# Altium integrated library Altera Bus Interface Controller.IntLib: 2 symbols
Pins are listed as number, name and electrical type; pins without a type are passive.

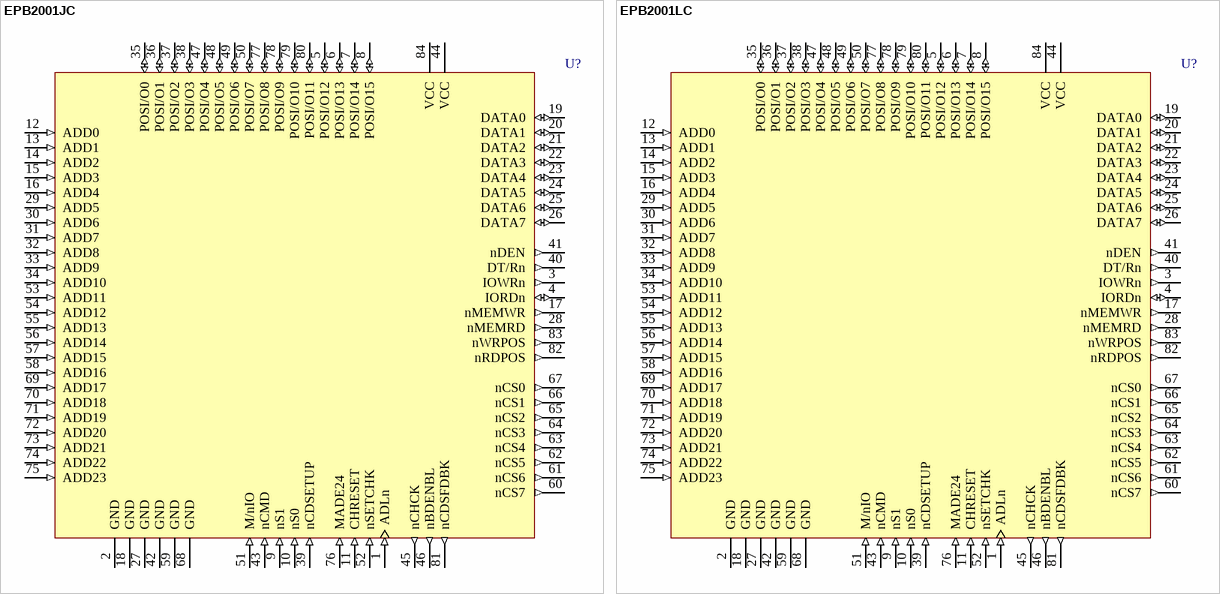
[diagram p0: symbols EPB2001JC to EPB2001LC]

## EPB2001JC
designator U?
User-Configurable Adapter Interface Chip for PS/2 Micro Channel; ComponentAvailability: Obsolete; Published: 24-Nov-2000; LatestRevisionDate: 13-Apr-2006; LatestRevisionNote: IPC-7351 Footprint Added.; DatasheetVersion: Sep-1988; PackageVersion: ver8.02, Jun-2000; PackageReference: JLCC84; Publisher: Altium Limited; PackageDescription: 84-Pin Ceramic J-Lead Chip Carrier (JLCC84); Code_JEDEC: MO-087; ComponentLink1Description: Manufacturer Link; ComponentLink1URL: http://www.altera.com/
footprint JLCC84_N (Leaded Chip Carrier, 84-Leads, Body 29.2x29.2mm, Pitch 1.27mm, IPC Medium Density)
footprint JLCC84_L (Leaded Chip Carrier, 84-Leads, Body 29.2x29.2mm, Pitch 1.27mm, IPC High Density)
footprint JLCC84_M (Leaded Chip Carrier, 84-Leads, Body 29.2x29.2mm, Pitch 1.27mm, IPC Low Density)
3D model EPB2001-JLCC84 (84-Pin Ceramic J-Lead Chip Carrier (JLCC84))
pins: 1 ADLn (in), 2 GND (power), 3 IOWRn (out), 4 IORDn (io), 5 POSI/O12 (io), 6 POSI/O13 (io), 7 POSI/O14 (io), 8 POSI/O15 (io), 9 nS1 (in), 10 nS0 (in), 11 CHRESET (in), 12 ADD0 (in), 13 ADD1 (in), 14 ADD2 (in), 15 ADD3 (in), 16 ADD4 (in), 17 nMEMWR (out), 18 GND (power), 19 DATA0 (io), 20 DATA1 (io), 21 DATA2 (io), 22 DATA3 (io), 23 DATA4 (io), 24 DATA5 (io), 25 DATA6 (io), 26 DATA7 (io), 27 GND (power), 28 nMEMRD (out), 29 ADD5 (in), 30 ADD6 (in), 31 ADD7 (in), 32 ADD8 (in), 33 ADD9 (in), 34 ADD10 (in), 35 POSI/O0 (io), 36 POSI/O1 (io), 37 POSI/O2 (io), 38 POSI/O3 (io), 39 nCDSETUP (in), 40 DT/Rn (out), 41 nDEN (out), 42 GND (power), 43 nCMD (in), 44 VCC (power), 45 nCHCK (out), 46 nBDENBL (out), 47 POSI/O4 (io), 48 POSI/O5 (io), 49 POSI/O6 (io), 50 POSI/O7 (io), 51 M/nIO (in), 52 nSETCHK (in), 53 ADD11 (in), 54 ADD12 (in), 55 ADD13 (in), 56 ADD14 (in), 57 ADD15 (in), 58 ADD16 (in), 59 GND (power), 60 nCS7 (out), 61 nCS6 (out), 62 nCS5 (out), 63 nCS4 (out), 64 nCS3 (out), 65 nCS2 (out), 66 nCS1 (out), 67 nCS0 (out), 68 GND (power), 69 ADD17 (in), 70 ADD18 (in), 71 ADD19 (in), 72 ADD20 (in), 73 ADD21 (in), 74 ADD22 (in), 75 ADD23 (in), 76 MADE24 (in), 77 POSI/O8 (io), 78 POSI/O9 (io), 79 POSI/O10 (io), 80 POSI/O11 (io), 81 nCDSFDBK (out), 82 nRDPOS (out), 83 nWRPOS (out), 84 VCC (power)

## EPB2001LC
designator U?
User-Configurable Adapter Interface Chip for PS/2 Micro Channel; ComponentAvailability: Obsolete; Published: 24-Nov-2000; LatestRevisionDate: 13-Apr-2006; LatestRevisionNote: IPC-7351 Footprint Added.; DatasheetVersion: Sep-1988; PackageVersion: ver14.1, Oct-2005; PackageReference: PLCC84; Publisher: Altium Limited; PackageDescription: 84-Pin Plastic J-Lead Chip Carrier (PLCC84); Code_JEDEC: MS-018-AF; Code_IPC: PLCC-84; ComponentLink1Description: Manufacturer Link; ComponentLink1URL: http://www.altera.com/
footprint PLCC84_N (Leaded Chip Carrier, 84-Leads, Body 29.3x29.3mm, Pitch 1.27mm, IPC Medium Density)
footprint PLCC84_L (Leaded Chip Carrier, 84-Leads, Body 29.3x29.3mm, Pitch 1.27mm, IPC High Density)
footprint PLCC84_M (Leaded Chip Carrier, 84-Leads, Body 29.3x29.3mm, Pitch 1.27mm, IPC Low Density)
3D model EPB2001-PLCC84 (84-Pin Plastic J-Lead Chip Carrier (PLCC84))
pins: 1 ADLn (in), 2 GND (power), 3 IOWRn (out), 4 IORDn (io), 5 POSI/O12 (io), 6 POSI/O13 (io), 7 POSI/O14 (io), 8 POSI/O15 (io), 9 nS1 (in), 10 nS0 (in), 11 CHRESET (in), 12 ADD0 (in), 13 ADD1 (in), 14 ADD2 (in), 15 ADD3 (in), 16 ADD4 (in), 17 nMEMWR (out), 18 GND (power), 19 DATA0 (io), 20 DATA1 (io), 21 DATA2 (io), 22 DATA3 (io), 23 DATA4 (io), 24 DATA5 (io), 25 DATA6 (io), 26 DATA7 (io), 27 GND (power), 28 nMEMRD (out), 29 ADD5 (in), 30 ADD6 (in), 31 ADD7 (in), 32 ADD8 (in), 33 ADD9 (in), 34 ADD10 (in), 35 POSI/O0 (io), 36 POSI/O1 (io), 37 POSI/O2 (io), 38 POSI/O3 (io), 39 nCDSETUP (in), 40 DT/Rn (out), 41 nDEN (out), 42 GND (power), 43 nCMD (in), 44 VCC (power), 45 nCHCK (out), 46 nBDENBL (out), 47 POSI/O4 (io), 48 POSI/O5 (io), 49 POSI/O6 (io), 50 POSI/O7 (io), 51 M/nIO (in), 52 nSETCHK (in), 53 ADD11 (in), 54 ADD12 (in), 55 ADD13 (in), 56 ADD14 (in), 57 ADD15 (in), 58 ADD16 (in), 59 GND (power), 60 nCS7 (out), 61 nCS6 (out), 62 nCS5 (out), 63 nCS4 (out), 64 nCS3 (out), 65 nCS2 (out), 66 nCS1 (out), 67 nCS0 (out), 68 GND (power), 69 ADD17 (in), 70 ADD18 (in), 71 ADD19 (in), 72 ADD20 (in), 73 ADD21 (in), 74 ADD22 (in), 75 ADD23 (in), 76 MADE24 (in), 77 POSI/O8 (io), 78 POSI/O9 (io), 79 POSI/O10 (io), 80 POSI/O11 (io), 81 nCDSFDBK (out), 82 nRDPOS (out), 83 nWRPOS (out), 84 VCC (power)